# Altium footprint library Switches.PcbLib: 46 footprints (part 1 of 3)
Each footprint in its own frame and in the unit in brackets; x right, y up, seen from the top. Pads: shape width x height; smd on the part's side, far side on the other; paste and mask are expansions set on the pad; w line width, h text height; cw(c..) or ccw(c..) is an arc to the next point about the centre after c.
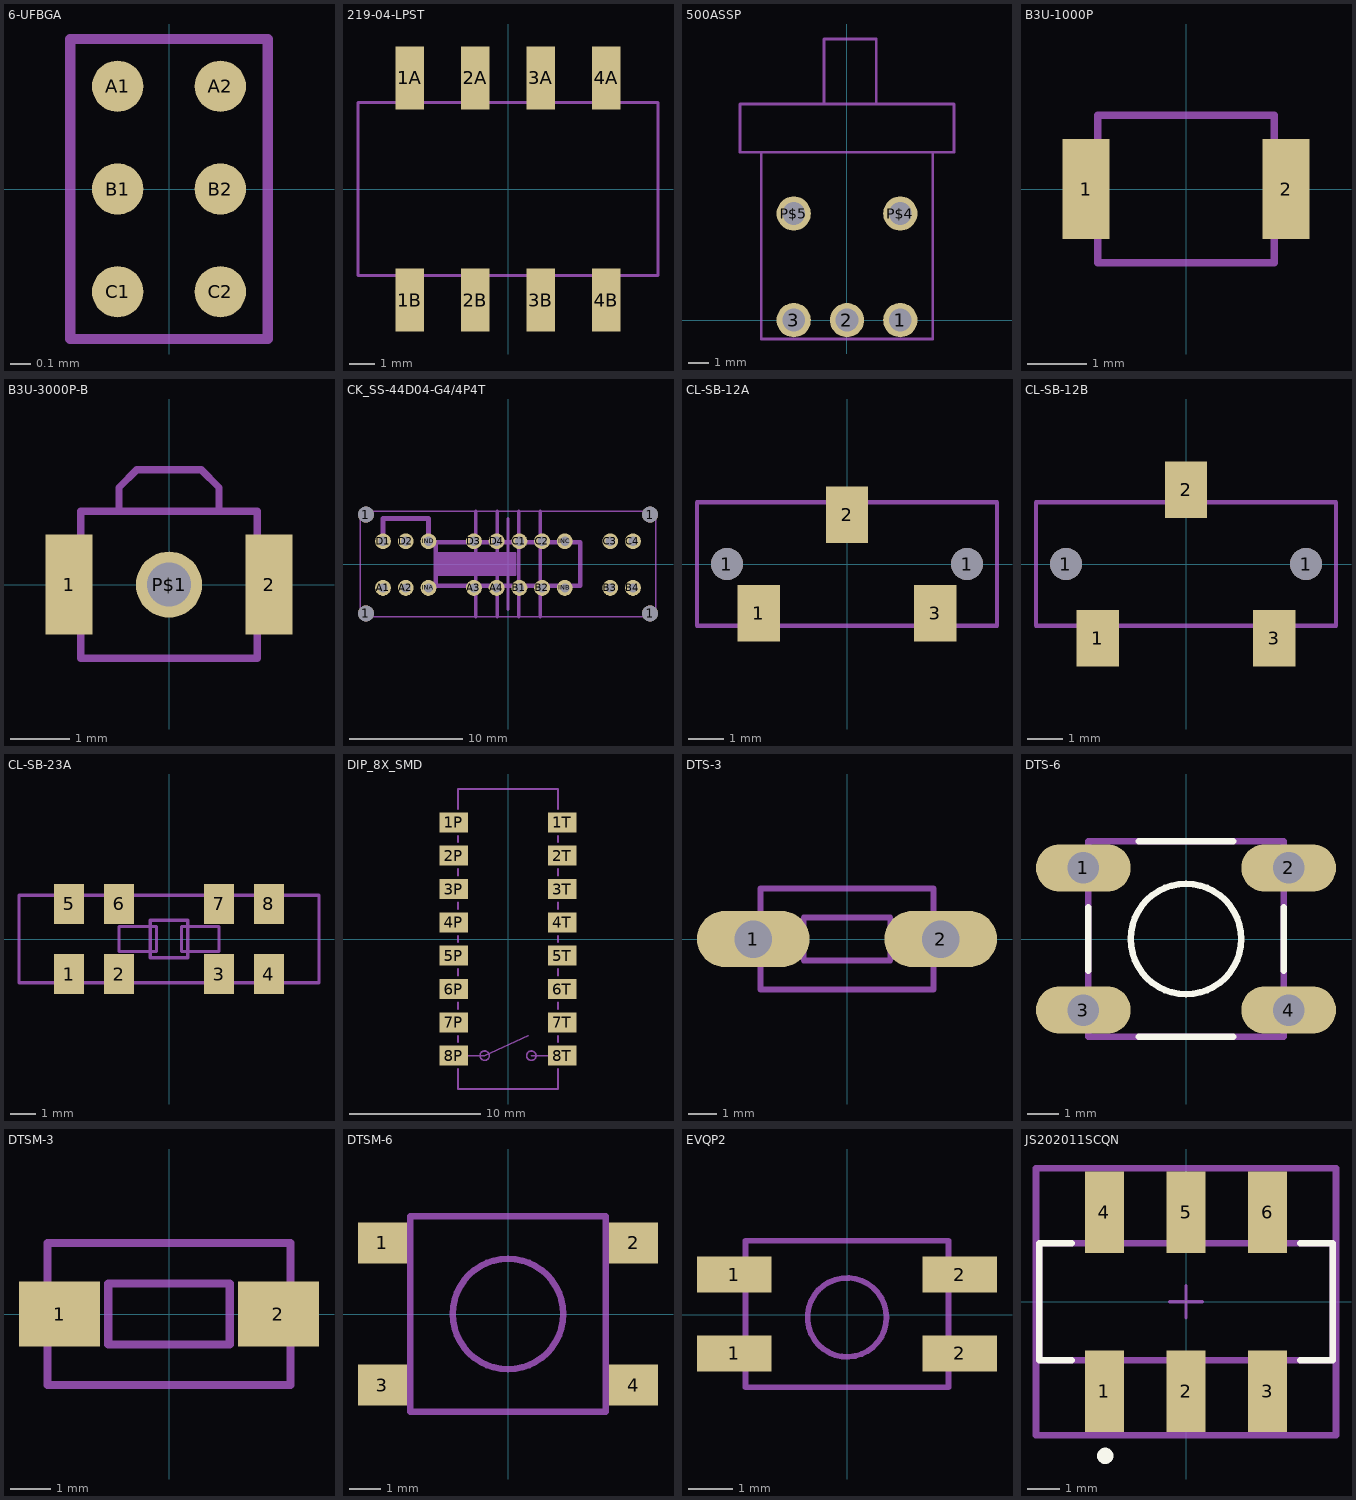
[diagram p0: the footprints below, top view; thin cyan lines are the x and y axes]

## 6-UFBGA [mm]
pads (6):
  rrect100% 0.25x0.25 smd paste-0.125: A1(-0.25,0.5) A2(0.25,0.5) B1(-0.25,0) B2(0.25,0) C1(-0.25,-0.5) C2(0.25,-0.5)
Top Paste:
  circle w0: c-0.25,0.5 r0.175
  circle w0: c0.25,0.5 r0.175
  circle w0: c0.25,0 r0.175
  circle w0: c-0.25,0 r0.175
  circle w0: c-0.25,-0.5 r0.175
  circle w0: c0.25,-0.5 r0.175
Mechanical 2:
  lines w0.05: -0.48,-0.73 0.48,-0.73 0.48,0.73 -0.48,0.73 -0.48,-0.73

## 219-04-LPST [mil]
pads (8):
  rect 44x96 smd: 1A(-150,169.5) 1B(-150,-169.5) 2A(-50,169.5) 2B(-50,-169.5) 3A(50,169.5) 3B(50,-169.5) 4A(150,169.5) 4B(150,-169.5)
Mechanical 2:
  lines w5: -229,-132 -229,132 229,132 229,-132 -229,-132

## 500ASSP [mm]
pads (5):
  round 1.635 hole 1.09: 1(2.54,0) 2(0,0) 3(-2.54,0) P$4(2.54,5.08) P$5(-2.54,5.08)
Mechanical 2:
  lines w0.127: -4.08,8 4.08,8 ; -4.08,8 -5.1,8 -5.1,10.3 -1.1,10.3 ; -4.08,8 -4.08,-0.9 4.08,-0.9 4.08,8 ; -1.1,10.3 -1.1,13.4 1.4,13.4 1.4,10.3 ; -1.1,10.3 1.4,10.3 ; 1.4,10.3 5.1,10.3 5.1,8 4.08,8

## B3U-1000P [mil]
pads (2):
  rect 31.5x66.93 smd: 1(-66.93,0) 2(66.93,0)
Mechanical 2:
  lines w5: -59.06,-49.21 59.06,-49.21 59.06,49.21 -59.06,49.21 -59.06,-49.21

## B3U-3000P-B [mil]
pads (3):
  rect 31.5x66.93 smd: 1(-66.93,0) 2(66.93,0)
  round 44.3 hole 29.53: P$1(0,0)
Mechanical 2:
  lines w5: -59.06,-49.21 59.06,-49.21 59.06,49.21 -59.06,49.21 -59.06,-49.21
Mechanical 18:
  lines w5: -33.46,49.21 -33.46,64.96 -21.65,76.77 21.65,76.77 33.46,64.96 33.46,49.21

## CK_SS-44D04-G4/4P4T [mm]
pads (24):
  round 1.4 hole 1.4: 1(-12.5,-4.35) 1(-12.5,4.35) 1(12.5,-4.35) 1(12.5,4.35)
  round 1.4 hole 0.8: A1(-11,-2.1) A2(-9,-2.1) A3(-3,-2.1) A4(-1,-2.1) B1(1,-2.1) B2(3,-2.1) B3(9,-2.1) B4(11,-2.1) C1(1,2) C2(3,2) C3(9,2) C4(11,2) D1(-11,2) D2(-9,2) D3(-3,2) D4(-1,2) INA(-7,-2.1) INB(5,-2.1) INC(5,2) IND(-7,2)
Mechanical 2:
  lines w0.127: -13,-4.65 -13,4.65 13,4.65 13,-4.65 -13,-4.65
  lines w0.254: 0,-4 0,4
Mechanical 18:
  rectangle: -6.35,-0.953 0.635,0.953
  lines w0.203: -6.35,-0.953 0.635,-0.953 0.635,0.953 -6.35,0.953 -6.35,-0.953
  lines w0.254: -7,2 -5,2
  lines w0.305: -2.857,-4.65 -2.857,4.65 ; -0.953,-4.65 -0.953,4.65 ; 0.953,-4.65 0.953,4.65 ; 2.857,-4.65 2.857,4.65
  lines w0.406: -11,2 -11,4 -7,4 -7,2 ; -6.35,-1.905 6.35,-1.905 6.35,1.905 -6.35,1.905 -6.35,0.953 -6.35,-0.953 -6.35,-1.905

## CL-SB-12A [mm]
pads (5):
  round 0.9 hole 0.9: 1(-3.4,0) 1(3.4,0)
  rect 1.2x1.6 smd: 1(-2.5,-1.4) 2(0,1.4) 3(2.5,-1.4)
Mechanical 2:
  lines w0.127: -4.25,-1.75 4.25,-1.75 4.25,1.75 -4.25,1.75 -4.25,-1.75

## CL-SB-12B [mm]
pads (5):
  round 0.9 hole 0.9: 1(-3.4,0) 1(3.4,0)
  rect 1.2x1.6 smd: 1(-2.5,-2.1) 2(0,2.1) 3(2.5,-2.1)
Mechanical 2:
  lines w0.127: -4.25,-1.75 -4.25,1.75 4.25,1.75 4.25,-1.75 -4.25,-1.75

## CL-SB-23A [mm]
pads (8):
  rect 1.2x1.6 smd: 1(-4,-1.4) 2(-2,-1.4) 3(2,-1.4) 4(4,-1.4) 5(-4,1.4) 6(-2,1.4) 7(2,1.4) 8(4,1.4)
Mechanical 2:
  lines w0.127: -6,-1.75 6,-1.75 6,1.75 -6,1.75 -6,-1.75
Mechanical 18:
  lines w0.127: -2,-0.5 -0.5,-0.5 -0.5,0.5 -2,0.5 -2,-0.5 ; -0.75,-0.75 0.75,-0.75 0.75,0.75 -0.75,0.75 -0.75,-0.75 ; 0.5,-0.5 0.5,0.5 2,0.5 2,-0.5 0.5,-0.5

## DIP_8X_SMD [mil]
pads (16):
  rect 85x60 smd: 1P(-162.5,350) 1T(162.5,350) 2P(-162.5,250) 2T(162.5,250) 3P(-162.5,150) 3T(162.5,150) 4P(-162.5,50) 4T(162.5,50) 5P(-162.5,-50) 5T(162.5,-50) 6P(-162.5,-150) 6T(162.5,-150) 7P(-162.5,-250) 7T(162.5,-250) 8P(-162.5,-350) 8T(162.5,-350)
Mechanical 2:
  lines w5: -150,-390 -150,-450 150,-450 150,-390 ; -150,-310 -150,-290 ; -150,-210 -150,-190 ; -150,-110 -150,-90 ; -150,-10 -150,10 ; -150,90 -150,110 ; -150,190 -150,210 ; -150,290 -150,310 ; -150,390 -150,450 150,450 150,390 ; 150,-310 150,-290 ; 150,-210 150,-190 ; 150,-110 150,-90 ; 150,-10 150,10 ; 150,90 150,110 ; 150,190 150,210 ; 150,290 150,310
Mechanical 18:
  circle w5: c70,-350 r14.14
  circle w5: c-70,-350 r14.14
  lines w5: -150,-350 -70,-350 60,-290 ; 70,-350 150,-350

## DTS-3 [mm]
pads (2):
  oval 3.9x1.95 hole 1.3: 1(-3.25,0) 2(3.25,0)
Mechanical 2:
  lines w0.203: -3,-1.5 -3,-1.75 3,-1.75 3,-1.5 ; -3,1.5 -3,1.75 3,1.75 3,1.5 ; -1,-0.75 1,-0.75 ; -1,0.75 1,0.75
Mechanical 18:
  lines w0.203: -3,-1.75 3,-1.75 3,1.75 -3,1.75 -3,-1.75 ; -1.5,-0.75 1.5,-0.75 1.5,0.75 -1.5,0.75 -1.5,-0.75

## DTS-6 [mm]
pads (4):
  oval 3x1.5 hole 1: 1(-3.25,2.25) 2(3.25,2.25) 3(-3.25,-2.25) 4(3.25,-2.25)
Top Overlay:
  circle w0.203: c0,0 r1.75
  circle w0.203: c0,0 r1.75
  lines w0.203: -3.1,-1 -3.1,1 ; -1.5,-3.1 1.5,-3.1 ; -1.5,3.1 1.5,3.1 ; 3.1,-1 3.1,1
Mechanical 18:
  lines w0.203: -3.1,-3.1 3.1,-3.1 3.1,3.1 -3.1,3.1 -3.1,-3.1
3D body "tac6x6.STEP": height 7, standoff -3.5, extent -3.95,-3.1 3.95,3.1

## DTSM-3 [mm]
pads (2):
  rect 2x1.6 smd: 1(-2.7,0) 2(2.7,0)
Mechanical 2:
  lines w0.203: -3,-1.25 -3,-1.75 3,-1.75 3,-1.25 ; -3,1.25 -3,1.75 3,1.75 3,1.25 ; -1.25,-0.75 1.2,-0.75 ; -1.25,0.75 1.25,0.75
Mechanical 18:
  lines w0.203: -3,-1.75 -3,1.75 3,1.75 3,-1.75 -3,-1.75 ; -1.5,-0.75 -1.5,0.75 1.5,0.75 1.5,-0.75 -1.5,-0.75

## DTSM-6 [mil]
pads (4):
  rect 61.02x51.18 smd: 1(-156.5,88.58) 2(156.5,88.58) 3(-156.5,-88.58) 4(156.5,-88.58)
Mechanical 2:
  circle w8: c0,0 r68.9
  lines w8: -122.05,-39.37 -122.05,39.37 ; -108.27,-122.05 108.27,-122.05 ; -108.27,122.05 108.27,122.05 ; 122.05,-39.37 122.05,39.37
Mechanical 18:
  circle w8: c0,0 r68.9
  lines w8: -122.05,-122.05 -122.05,122.05 122.05,122.05 122.05,-122.05 -122.05,-122.05

## EVQP2 [mil]
pads (4):
  rect 66x32 smd: 1(-100,-34.25) 1(-100,35.75) 2(100,-34.25) 2(100,35.75)
Mechanical 2:
  circle w5: c0,-2.25 r35.01
  lines w5: -90,-64.25 -90,65.75 90,65.75 90,-64.25 -90,-64.25

## JS202011SCQN [mm]
pads (6):
  rect 1.2x2.5 smd paste+0 mask+0: 1(-2.5,-2.75) 2(0,-2.75) 3(2.5,-2.75) 4(-2.5,2.75) 5(0,2.75) 6(2.5,2.75)
Top Overlay:
  circle w0.25: c-2.476,-4.725 r0.125
  lines w0.2: -3.5,-1.8 -4.5,-1.8 -4.5,1.8 -3.5,1.8 ; 3.5,-1.8 4.5,-1.8 4.5,1.8 3.5,1.8
Mechanical 5:
  lines w0.2: -4.6,-4.1 -4.6,4.1 4.6,4.1 4.6,-4.1 -4.6,-4.1
  text ".Designator" at 0,-0.001 h2
Mechanical 13:
  lines w0.2: -4.5,-1.8 -4.5,1.8 4.5,1.8 4.5,-1.8 -4.5,-1.8
Mechanical 15:
  lines w0.2: -4.6,-4.1 -4.6,4.1 4.6,4.1 4.6,-4.1 -4.6,-4.1
Mechanical 16:
  lines w0.1: -0.5,0 0.5,0 ; 0,-0.5 0,0.5
3D body "Selector Switch - MSS22D18.stp": height 5.8, standoff -0.02, extent -4.575,-3.141 4.595,3.768